# EAGLE library part ARDUINO_NANO (library eagle_src)
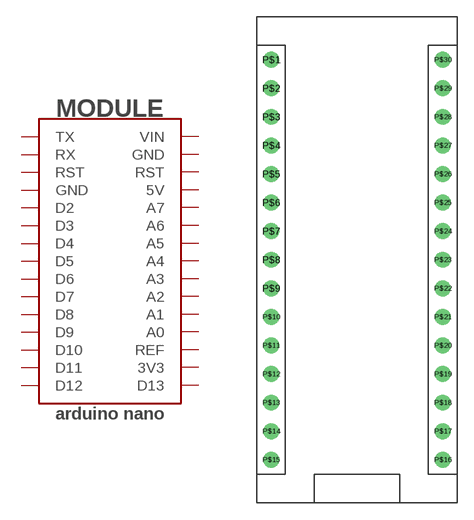
[diagram p1: symbol with the pads of ARDUINO_NANO; footprint ARDUINO_NANO]

Designator prefix MODULE

## ARDUINO_NANO  [ARDUINO_NANO]
P$1  TX
P$2  RX
P$3  RST
P$4  GND
P$5  D2
P$6  D3
P$7  D4
P$8  D5
P$9  D6
P$10  D7
P$11  D8
P$12  D9
P$13  D10
P$14  D11
P$15  D12
P$16  D13
P$17  3V3
P$18  REF
P$19  A0
P$20  A1
P$21  A2
P$22  A3
P$23  A4
P$24  A5
P$25  A6
P$26  A7
P$27  5V
P$28  RST
P$29  GND
P$30  VIN

## Footprint ARDUINO_NANO (pad centres in mm)
drill 0.9: P$1 -7.62,17.78; P$2 -7.62,15.24; P$3 -7.62,12.7; P$4 -7.62,10.16; P$5 -7.62,7.62; P$6 -7.62,5.08; P$7 -7.62,2.54; P$8 -7.62,0; P$9 -7.62,-2.54; P$10 -7.62,-5.08; P$11 -7.62,-7.62; P$12 -7.62,-10.16; P$13 -7.62,-12.7; P$14 -7.62,-15.24; P$15 -7.62,-17.78; P$16 7.62,-17.78; P$17 7.62,-15.24; P$18 7.62,-12.7; P$19 7.62,-10.16; P$20 7.62,-7.62; P$21 7.62,-5.08; P$22 7.62,-2.54; P$23 7.62,0; P$24 7.62,2.54; P$25 7.62,5.08; P$26 7.62,7.62; P$27 7.62,10.16; P$28 7.62,12.7; P$29 7.62,15.24; P$30 7.62,17.78